# Altium schematic symbol library POLYLINE_TEST.SchLib: 1 symbol
Pins are listed as number, name and electrical type; pins without a type are passive.

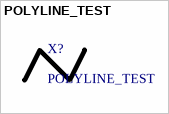
[diagram p0: symbol POLYLINE_TEST]

## POLYLINE_TEST
designator X?
Polyline test